# Altium schematic symbol library Supernova DF13.SchLib: 42 symbols
Pins are listed as number, name and electrical type; pins without a type are passive.

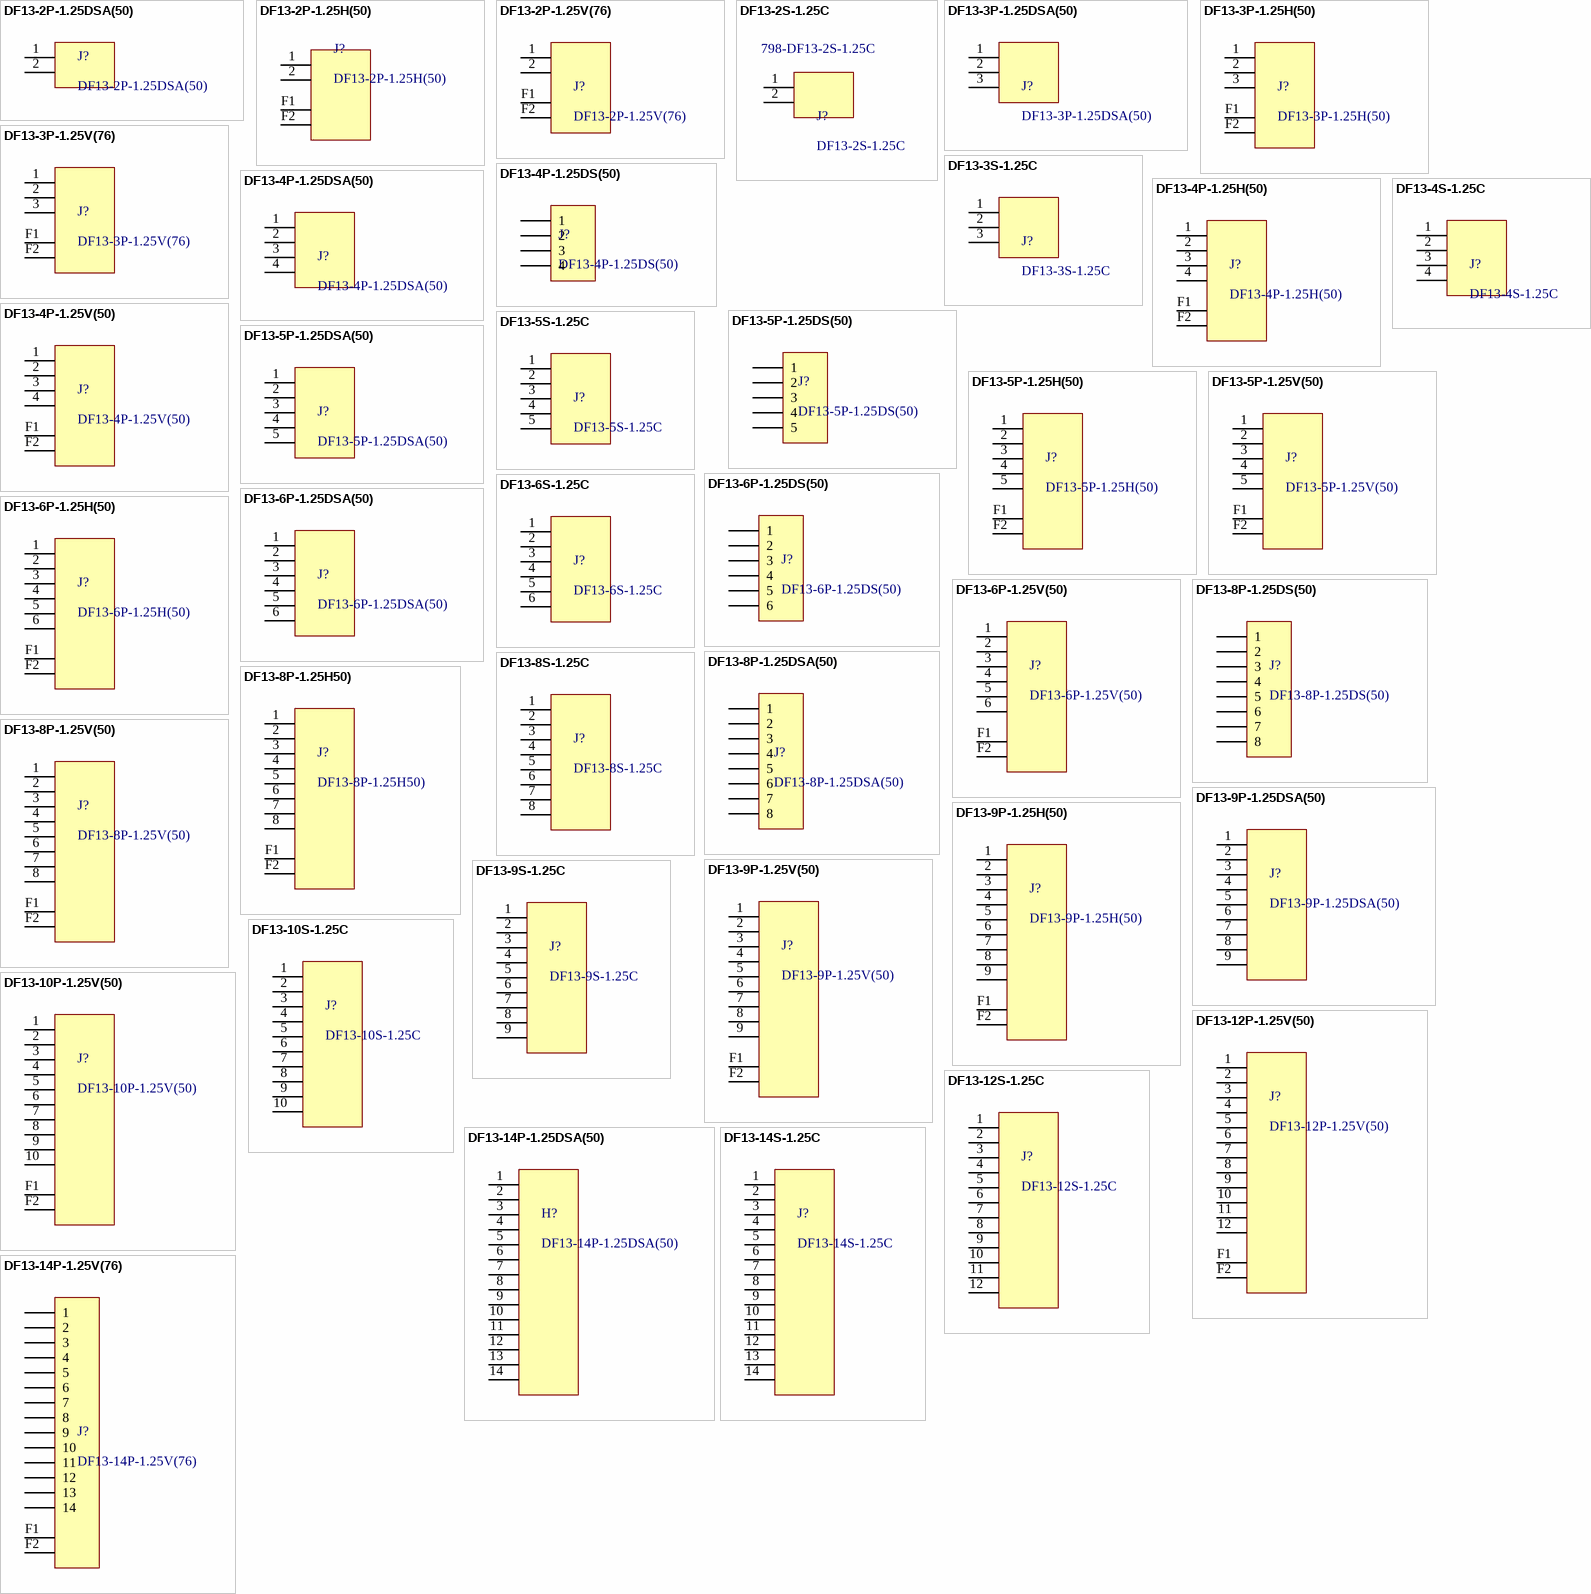
[diagram p0: symbols DF13-2P-1.25DSA(50) to DF13-14S-1.25C]

## DF13-2P-1.25DSA(50)
designator J?
Header DF13-V-TH 2-Pin; Supplier 1: Mouser; Supplier 2: Digi-Key; Supplier Part Number 1: 798-DF132P125DSA50; Supplier Part Number 2: H3305-ND
footprint DF13-2P-TH-V (Footprint not found)
pins: 1, 2

## DF13-2P-1.25H(50)
designator J?
Header DF13-RA 2-Pin; Supplier 1: Digi-Key; Supplier Part Number 1: H3350-ND; Supplier 2: Mouser; Supplier 3: Digi-Key; Supplier Part Number 2: 798-DF132P125H50; Supplier Part Number 3: H3380-ND
footprint DF13A_2P (Footprint not found)
pins: 1, 2, F1, F2

## DF13-2P-1.25V(76)
designator J?
Header DF13-V 2-Pin; Supplier 1: Digi-Key; Supplier Part Number 1: H126392-ND; Supplier 2: Mouser; Supplier Part Number 2: 798-DF13-2P-1.25V76
footprint DF13A_2P_V (Footprint not found)
footprint DF13A_2P_V - NO KEEPOUT
pins: 1, 2, F1, F2

## DF13-2S-1.25C
designator J?  Supplier Part Number 3: 798-DF13-2S-1.25C
Housing DF13 2-Pin; Supplier 1: Mouser; Supplier Part Number 1: 798-DF13-3S-1.25C; Supplier 2: Digi-Key; Supplier 3: Mouser; Supplier Part Number 2: H2179-ND
pins: 1, 2

## DF13-3P-1.25DSA(50)
designator J?
Header DF13-V-TH 3-Pin; Supplier 1: Digi-Key; Supplier Part Number 1: H3306-ND; Supplier 2: Mouser; Supplier Part Number 2: 798-DF133P125DSA50
footprint DF13-3P-TH-V (Footprint not found)
pins: 1, 2, 3 1

## DF13-3P-1.25H(50)
designator J?
Header DF13-RA 3-Pin; Supplier 1: Digi-Key; Supplier Part Number 1: H3351-ND; Supplier 2: Mouser; Supplier 3: Digi-Key; Supplier 4: Digi-Key; Supplier Part Number 2: 798-DF133P125H50; Supplier Part Number 3: H3381-ND; Supplier Part Number 4: H125716CT-ND
footprint DF13A_3P (Footprint not found)
pins: 1, 2, 3 1, F1, F2

## DF13-3P-1.25V(76)
designator J?
Header DF13-V 3-Pin; Supplier 1: Digi-Key; Supplier Part Number 1: H126397-ND; Supplier 2: Mouser; Supplier Part Number 2: 798-DF13-3P-1.25V76
footprint DF13A_3P_V (Footprint not found)
footprint DF13A_3P_V - No keepout (Footprint not found)
pins: 1, 2, 3 1, F1, F2

## DF13-3S-1.25C
designator J?
Housing DF13 3-Pin; Supplier 1: Digi-Key; Supplier 2: Mouser; Supplier Part Number 1: H2180-ND; Supplier Part Number 2: 798-DF13-3S-1.25C
pins: 1, 2, 3 1

## DF13-4P-1.25DS(50)
designator J?
Header DF13-RA-TH 4-Pin; Supplier 1: Digi-Key; Supplier Part Number 1: H3322-ND; Supplier 2: Mouser; Supplier Part Number 2: 798-DF134P125DS50
footprint DF13-4P-TH-RA (Footprint not found)
pins: 1, 2, 3, 4

## DF13-4P-1.25DSA(50)
designator J?
Header DF13-V-TH 4-Pin; Supplier 1: Digi-Key; Supplier Part Number 1: H3307-ND; Supplier 2: Mouser; Supplier Part Number 2: 798-DF134P125DSA50
footprint DF13A_4P_V +TH
pins: 1, 2, 3 1, 4 1

## DF13-4P-1.25H(50)
designator J?
Header DF13-RA 4-Pin; Supplier 1: Digi-Key; Supplier Part Number 1: H3352-ND; Supplier 2: Mouser; Supplier 3: Digi-Key; Supplier Part Number 2: 798-DF134P125H50; Supplier Part Number 3: H3382-ND
footprint DF13A_4P (Footprint not found)
pins: 1, 2, 3 1, 4 1, F1, F2

## DF13-4P-1.25V(50)
designator J?
Header DF13-V 4-Pin; Supplier 1: Digi-Key; Supplier Part Number 1: H3434-ND; Supplier 2: DigiKey; Supplier Part Number 2: H3338-ND; Supplier 3: Mouser; Supplier Part Number 3: 798-DF134P125V50; Supplier 4: DigiKey; Supplier Part Number 4: H3338-ND; Supplier 5: Mouser; Supplier Part Number 5: 798-DF134P125V50; Supplier 6: Digi-Key; Supplier Part Number 6: H126402-ND; Supplier 7: Mouser; Supplier Part Number 7: 798-DF13-4P-1.25V76
footprint DF13A_4P_V (Footprint not found)
footprint DF13A_4P_V narrow (Footprint not found)
footprint DF13A_4P_V - NO KEEPOUT (Footprint not found)
footprint DF13A_4P_V narrow - no keepout
footprint DF13A_4P_V +TH
pins: 1, 2, 3 1, 4 1, F1, F2

## DF13-4S-1.25C
designator J?
Housing DF13 4-Pin; Supplier 1: Digi-Key; Supplier 2: Mouser; Supplier Part Number 1: H2181-ND; Supplier Part Number 2: 798-DF13-4S-1.25C
pins: 1, 2, 3 1, 4 1

## DF13-5P-1.25DS(50)
designator J?
Header DF13-RA-TH 5 Pin; Supplier 1: Digi-Key; Supplier Part Number 1: H3323-ND; Supplier 2: Mouser; Supplier Part Number 2: 798-DF135P125DS50
footprint DF13-5P-TH-RA (Footprint not found)
pins: 1, 2, 3, 4, 5

## DF13-5P-1.25DSA(50)
designator J?
Header DF13-V-TH 5-Pin; Supplier 1: Digi-Key; Supplier Part Number 1: H3308-ND; Supplier 2: Mouser; Supplier Part Number 2: 798-DF135P125DSA50
footprint DF13-5P-TH-V (Footprint not found)
pins: 1, 2, 3 1, 4 1, 5 1

## DF13-5P-1.25H(50)
designator J?
Header DF13-RA 5-Pin; Supplier 1: Digi-Key; Supplier Part Number 1: H121936CT-ND; Supplier 2: Mouser; Supplier 3: Digi-Key; Supplier Part Number 2: 798-DF135P125H50; Supplier Part Number 3: H3383-ND
footprint DF13A_5P (Footprint not found)
pins: 1, 2, 3 1, 4 1, 5 1, F1, F2

## DF13-5P-1.25V(50)
designator J?
Header DF13-V 5-Pin; Supplier 1: Digi-Key; Supplier Part Number 1: H3339-ND; Supplier 2: Mouser; Supplier 3: Digi-Key; Supplier Part Number 2: 798-DF135P125V50; Supplier Part Number 3: H3435-ND
footprint DF13A_5P_V (Footprint not found)
footprint DF13A_5P_V narrow (Footprint not found)
footprint DF13A_5P_V narrow - no keepout
pins: 1, 2, 3 1, 4 1, 5 1, F1, F2

## DF13-5S-1.25C
designator J?
Housing DF13 5-Pin; Supplier 1: Digi-Key; Supplier 2: Mouser; Supplier Part Number 1: H2182-ND; Supplier Part Number 2: 798-DF13-5S-1.25C
pins: 1, 2, 3 1, 4 1, 5 1

## DF13-6P-1.25DS(50)
designator J?
Header DF13-RA-TH 6-Pin; Supplier 1: Digi-Key; Supplier Part Number 1: H3324-ND; Supplier 2: Mouser; Supplier Part Number 2: 798-DF136P125DS50
footprint DF13-6P-TH-RA (Footprint not found)
pins: 1, 2, 3, 4, 5, 6

## DF13-6P-1.25DSA(50)
designator J?
Header DF13-V-TH 6-Pin; Supplier 1: Digi-Key; Supplier Part Number 1: H3309-ND; Supplier 2: Mouser; Supplier Part Number 2: 798-DF136P125DSA50
footprint DF13-6P-TH-V (Footprint not found)
pins: 1, 2, 3 1, 4 1, 5 1, 6 1

## DF13-6P-1.25H(50)
designator J?
Header DF13-RA 6-Pin; Supplier 1: Digi-Key; Supplier Part Number 1: H3354-ND; Supplier 2: Mouser; Supplier 3: Digi-Key; Supplier Part Number 2: 798-DF136P125H50; Supplier Part Number 3: H3384-ND
footprint DF13A_6P (Footprint not found)
pins: 1, 2, 3 1, 4 1, 5 1, 6, F1, F2

## DF13-6P-1.25V(50)
designator J?
Header DF13-V 6-Pin; Supplier 1: Digi-Key; Supplier Part Number 1: H3340-ND; Supplier 2: Mouser; Supplier 3: Digi-Key; Supplier Part Number 2: 798-DF136P125V50; Supplier Part Number 3: H3436-ND
footprint DF13A_6P_V (Footprint not found)
footprint DF13A_6P_V narrow (Footprint not found)
footprint DF13A_6P_V - no keepout (Footprint not found)
pins: 1, 2, 3 1, 4 1, 5 1, 6 1, F1, F2

## DF13-6S-1.25C
designator J?
Housing DF13 6-Pin; Supplier 1: Digi-Key; Supplier 2: Mouser; Supplier Part Number 1: H2183-ND; Supplier Part Number 2: 798-DF13-6S-1.25C
pins: 1, 2, 3 1, 4 1, 5 1, 6 1

## DF13-8P-1.25DS(50)
designator J?
Header DF13-RA-TH 8-Pin; Supplier 1: Digi-Key; Supplier Part Number 1: H3326-ND; Supplier 2: Mouser; Supplier Part Number 2: 798-DF138P125DS50
footprint DF13-8P-TH-RA (Footprint not found)
pins: 1, 2, 3, 4, 5, 6, 7, 8

## DF13-8P-1.25DSA(50)
designator J?
Header DF13-V-TH 8-Pin; Supplier 1: Digi-Key; Supplier Part Number 1: H3311-ND; Supplier 2: Mouser; Supplier Part Number 2: 798-DF138P125DSA50
footprint DF13-8P-TH-V (Footprint not found)
pins: 1, 2, 3, 4, 5, 6, 7, 8

## DF13-8P-1.25H50)
designator J?
Header DF13-RA 8-Pin; Supplier 1: Digi-Key; Supplier Part Number 1: H3356-ND; Supplier 2: Mouser; Supplier Part Number 2: 798-DF138P125H50; Supplier 3: DigiKey; Supplier Part Number 3: H3386-ND; Supplier 4: Mouser; Supplier Part Number 4: 798-DF138P125H50; Supplier 5: DigiKey; Supplier Part Number 5: H3386-ND; Supplier 6: Digi-Key; Supplier Part Number 6: H126421-ND
footprint DF13A_8P (Footprint not found)
pins: 1, 2, 3, 4, 5, 6, 7, 8, F1, F2

## DF13-8P-1.25V(50)
designator J?
Header DF13-V 8-Pin; Supplier 1: Digi-Key; Supplier Part Number 1: H3342-ND; Supplier 2: Mouser; Supplier 3: Digi-Key; Supplier Part Number 2: 798-DF138P125V50; Supplier Part Number 3: H3438-ND
footprint DF13A_8P_V (Footprint not found)
footprint DF13A_8P_V narrow (Footprint not found)
footprint DF13A_8P_V narrow - no keepout
pins: 1, 2, 3, 4, 5, 6, 7, 8, F1, F2

## DF13-8S-1.25C
designator J?
Housing DF13 8-Pin; Supplier 1: Digi-Key; Supplier 2: Mouser; Supplier Part Number 2: 798-DF13-8S-1.25C; Supplier Part Number 1: H2185-ND
pins: 1, 2, 3 1, 4 1, 5 1, 6 1, 7 1, 8 1

## DF13-9P-1.25DSA(50)
designator J?
Header DF13-V-TH 9-Pin; Supplier 1: Digi-Key; Supplier Part Number 1: H3312-ND; Supplier 2: Mouser; Supplier Part Number 2: 798-DF139P125DSA50
footprint DF13-9P-TH-V (Footprint not found)
pins: 1, 2, 3, 4, 5, 6, 7, 8, 9

## DF13-9P-1.25H(50)
designator J?
Header DF13-RA 9-Pin; Supplier 1: Digi-Key; Supplier Part Number 1: H3357-ND; Supplier 2: Mouser; Supplier 3: Digi-Key; Supplier Part Number 2: 798-DF139P125H50; Supplier Part Number 3: H3387-ND
footprint DF13A_9P (Footprint not found)
pins: 1, 2, 3 1, 4 1, 5 1, 6, 7, 8, 9, F1, F2

## DF13-9P-1.25V(50)
designator J?
Header DF13-V 9-Pin; Supplier 1: Digi-Key; Supplier Part Number 1: H3343-ND; Supplier 2: Mouser; Supplier 3: Digi-Key; Supplier Part Number 2: 798-DF139P125V50; Supplier Part Number 3: H3439-ND
footprint DF13A_9P_V (Footprint not found)
footprint DF13A_9P_V narrow (Footprint not found)
footprint DF13A_9P_V narrow - no keepout
pins: 1, 2, 3, 4, 5, 6, 7, 8, 9, F1, F2

## DF13-9S-1.25C
designator J?
Housing DF13 9-Pin; Supplier 1: Digi-Key; Supplier 2: Mouser; Supplier Part Number 2: 798-DF13-9S-1.25C; Supplier Part Number 1: H3300-ND
pins: 1, 2, 3 1, 4 1, 5 1, 6 1, 7 1, 8 1, 9 1

## DF13-10P-1.25V(50)
designator J?
Header DF13-V 10-Pin; Supplier 1: Digi-Key; Supplier 2: Digi-Key; Supplier Part Number 1: H3440-ND; Supplier Part Number 2: H3344-ND
footprint DF13A_10P_V (Footprint not found)
footprint DF13A_10P_V - No Keepout (Footprint not found)
pins: 1, 2, 3, 4, 5, 6, 7, 8, 9, 10, F1, F2

## DF13-10S-1.25C
designator J?
Housing DF13 10-Pin; Supplier 1: Digi-Key; Supplier 2: Mouser; Supplier Part Number 1: H2186-ND; Supplier Part Number 2: 798-DF13-10S-1.25C
pins: 1, 2, 3 1, 4 1, 5 1, 6 1, 7 1, 8 1, 9 1, 10 1

## DF13-12P-1.25V(50)
designator J?
Header DF13-V 12-Pin; Supplier 1: Digi-Key; Supplier Part Number 1: H3346-ND; Supplier 2: Mouser; Supplier 3: Digi-Key; Supplier Part Number 2: 798-DF1312P125V50; Supplier Part Number 3: H3442-ND
footprint DF13A_12P_V (Footprint not found)
pins: 1, 2, 3, 4, 5, 6, 7, 8, 9, 10, 11, 12, F1, F2

## DF13-12S-1.25C
designator J?
Housing DF13 12-Pin; Supplier 1: Digi-Key; Supplier 2: Mouser; Supplier Part Number 1: H2188-ND; Supplier Part Number 2: 798-DF13-12S-1.25C
pins: 1, 2, 3 1, 4 1, 5 1, 6 1, 7 1, 8 1, 9 1, 10 1, 11 1, 12 1

## DF13-14P-1.25DSA(50)
designator H?
Header DF13-V-TH 14-Pin; Supplier 1: Digi-Key; Supplier Part Number 1: H3316-ND; Supplier 2: Mouser; Supplier Part Number 2: 798-DF1314P125DSA50
footprint DF13-14P-1.25DSA (Footprint not found)
footprint DF13A_14P_V + TH
pins: 1, 2, 3, 4, 5, 6, 7, 8, 9, 10, 11, 12, 13, 14

## DF13-14P-1.25V(76)
designator J?
Header DF13 14-Pin; Supplier 1: Rs; Supplier Part Number 1: 1886422; Supplier 2: Digi-Key; Supplier Part Number 2: H126383-ND
footprint DF13A_14P_V + TH
footprint DF13A_14P_V
pins: 1, 2, 3, 4, 5, 6, 7, 8, 9, 10, 11, 12, 13, 14, F1, F2

## DF13-14S-1.25C
designator J?
Housing DF13 14-Pin; Supplier 1: Digi-Key; Supplier 2: Mouser; Supplier Part Number 1: H2189-ND; Supplier Part Number 2: 798-DF13-14S-1.25C
pins: 1, 2, 3 1, 4 1, 5 1, 6 1, 7 1, 8 1, 9 1, 10 1, 11 1, 12 1, 13 1, 14 1

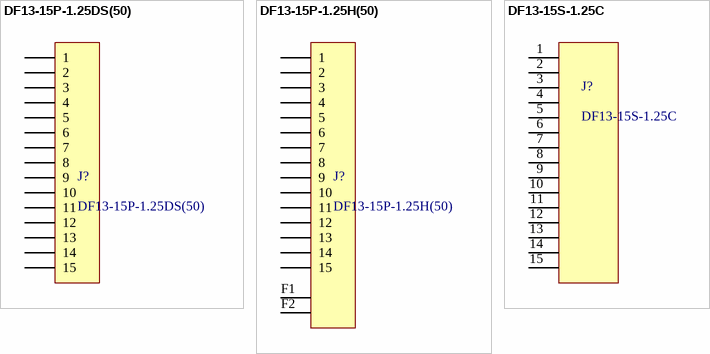
[diagram p1: symbols DF13-15P-1.25DS(50) to DF13-15S-1.25C]

## DF13-15P-1.25DS(50)
designator J?
Header DF13-RA-TH 15-Pin; Supplier 1: Digi-Key; Supplier Part Number 1: H3332-ND; Supplier 2: Mouser; Supplier Part Number 2: 798-DF1315P125DS50
footprint DF13-15P-TH-RA (Footprint not found)
pins: 1, 2, 3, 4, 5, 6, 7, 8, 9, 10, 11, 12, 13, 14, 15

## DF13-15P-1.25H(50)
designator J?
Header DF13-RA 15-Pin; Supplier 1: Digi-Key; Supplier Part Number 1: H3362-ND; Supplier 2: Mouser; Supplier 3: Digi-Key; Supplier Part Number 2: 798-DF1315P125H50; Supplier Part Number 3: H3392-ND
footprint DF13A_15P (Footprint not found)
pins: 1, 2, 3, 4, 5, 6, 7, 8, 9, 10, 11, 12, 13, 14, 15, F1, F2

## DF13-15S-1.25C
designator J?
Housing DF13 15-Pin; Supplier 1: Mouser; Supplier 2: Digi-Key; Supplier Part Number 1: 798-DF1315S125C; Supplier Part Number 2: H2259-ND
pins: 1, 2, 3 1, 4 1, 5 1, 6 1, 7 1, 8 1, 9 1, 10 1, 11 1, 12 1, 13 1, 14 1, 15 1